# EAGLE library part DM1AA-SF-PEJ (library BeCreative)
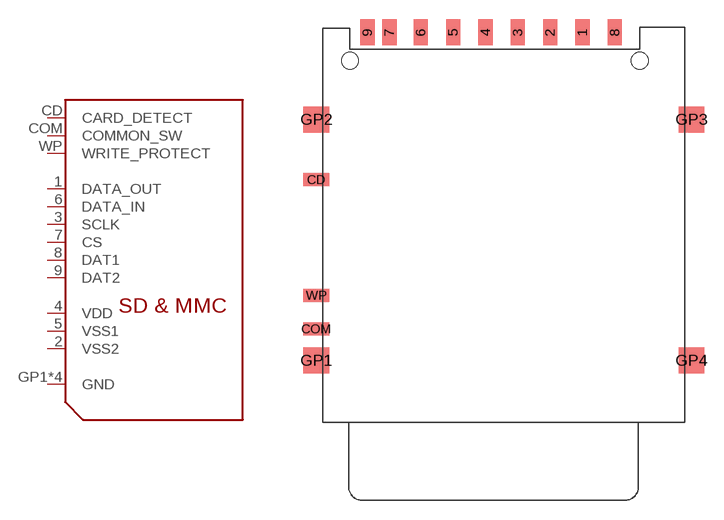
[diagram p3: symbol with the pads of DM1AA-SF-PEJ; footprint DM1AA-SF-PEJ]

Designator prefix -

## DM1AA-SF-PEJ  [DM1AA-SF-PEJ]
1  DATA_OUT  out
2  VSS2  sup
3  SCLK  in
4  VDD  sup
5  VSS1  sup
6  DATA_IN  in
7  CS  in
8  DAT1
9  DAT2
CD  CARD_DETECT  pas
COM  COMMON_SW  pas
GP1  GND  sup
GP2  GND  sup
GP3  GND  sup
GP4  GND  sup
WP  WRITE_PROTECT  pas

## Footprint DM1AA-SF-PEJ (pad centres in mm)
smd 1.1 x 2: 1 17.975,2.2; 2 15.475,2.2; 3 12.975,2.2; 4 10.475,2.2; 5 7.975,2.2; 6 5.475,2.2; 7 3.05,2.2; 8 20.475,2.2; 9 1.35,2.2
smd 2 x 1: CD -2.6,-9.2; COM -2.6,-20.75; WP -2.6,-18.15
smd 2 x 2: GP1 -2.6,-23.2; GP2 -2.6,-4.55; GP3 26.4,-4.55; GP4 26.4,-23.2
hole 1.3 at 0,0
hole 1.3 at 22.4,0